# EAGLE library part SREG_HCF4094B (library walthour)
8-bit shift register with output enable and strobe.
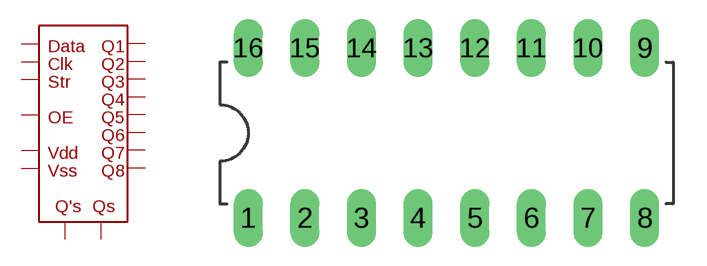
[diagram p0: symbol with the pads of 16DIP; footprint 16DIP]

Designator prefix -

## SREG_HCF4094B  [16DIP]
1  STR
2  DATA
3  CLK
4  Q1
5  Q2
6  Q3
7  Q4
8  VSS
9  QS
10  Q'S
11  Q8
12  Q7
13  Q6
14  Q5
15  OE
16  VDD

## Footprint 16DIP (pad centres in mm)
drill 0.8 long: 1 -8.89,-3.81; 2 -6.35,-3.81; 3 -3.81,-3.81; 4 -1.27,-3.81; 5 1.27,-3.81; 6 3.81,-3.81; 7 6.35,-3.81; 8 8.89,-3.81; 9 8.89,3.81; 10 6.35,3.81; 11 3.81,3.81; 12 1.27,3.81; 13 -1.27,3.81; 14 -3.81,3.81; 15 -6.35,3.81; 16 -8.89,3.81